# Altium footprint library ACP3225(3D).PcbLib: 1 footprints
Each footprint in its own frame and in the unit in brackets; x right, y up, seen from the top. Pads: shape width x height; smd on the part's side, far side on the other; paste and mask are expansions set on the pad; w line width, h text height; cw(c..) or ccw(c..) is an arc to the next point about the centre after c.
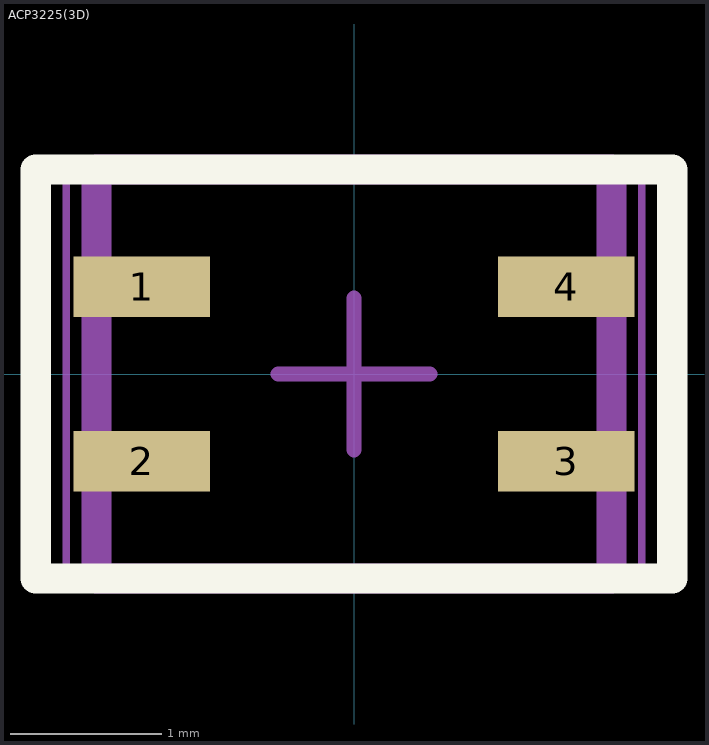
[diagram p0: the footprint, top view; thin cyan lines are the x and y axes]

## ACP3225(3D) [mm]
pads (4):
  rect 0.9x0.4 smd: 1(-1.4,0.575) 2(-1.4,-0.575) 3(1.4,-0.575) 4(1.4,0.575)
Top Overlay:
  lines w0.2: -2.1,-1.35 -2.1,1.35 2.1,1.35 2.1,-1.35 -2.1,-1.35
Mechanical 7:
  lines w0.2: -1.7,-1.35 -1.7,1.35 1.7,1.35 1.7,-1.35 -1.7,-1.35
Mechanical 15:
  lines w0.05: -1.9,-1.3 -1.9,1.3 ; 1.9,-1.3 1.9,1.3
  lines w0.1: -0.5,0 0.5,0 ; 0,-0.5 0,0.5
3D body "User Library-acp3225.STEP": height 1.91, standoff 0, extent -1.61,-1.25 1.61,1.25